# EAGLE library part EP5357HUI (library EP5357HUI)
Switching Voltage Regulators 600mA/5MHz Buck Reg Int Inductor, Hi VID Source: Datasheet <https://www.intel.com/content/dam/www/programmable/us/en/pdfs/literature/ds/ep5357_03409.pdf>
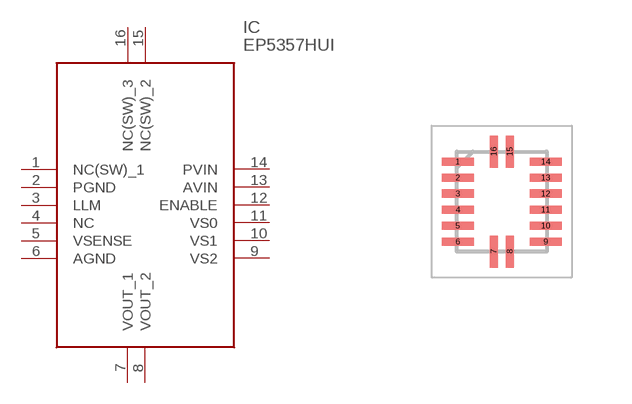
[diagram p0: symbol with the pads of QFN40P225X250X120-16N; footprint QFN40P225X250X120-16N]

Designator prefix IC

## EP5357HUI (Description: Switching Voltage Regulators 600mA/5MHz Buck Reg Int Inductor, Hi VID; Height: 1.2mm; Manufacturer_Name: Intel; Manufacturer_Part_Number: EP5357HUI; Mouser_Part_Number: 884-EP5357HUI; Mouser_Price-Stock: https://www.mouser.co.uk/ProductDetail/Intel-Altera/EP5357HUI?qs=Bt1661OnjFKQMLj2uHL8Lg%3D%3D)  [QFN40P225X250X120-16N]
1  NC(SW)_1
2  PGND
3  LLM
4  NC  nc
5  VSENSE
6  AGND
7  VOUT_1
8  VOUT_2
9  VS2
10  VS1
11  VS0
12  ENABLE
13  AVIN
14  PVIN
15  NC(SW)_2
16  NC(SW)_3

## Footprint QFN40P225X250X120-16N (pad centres in mm)
EP5357HUI
smd 0.8 x 0.2: 1 -1.1,1; 2 -1.1,0.6; 3 -1.1,0.2; 4 -1.1,-0.2; 5 -1.1,-0.6; 6 -1.1,-1; 9 1.1,-1; 10 1.1,-0.6; 11 1.1,-0.2; 12 1.1,0.2; 13 1.1,0.6; 14 1.1,1
smd 0.2 x 0.8: 7 -0.2,-1.25; 8 0.2,-1.25; 15 0.2,1.25; 16 -0.2,1.25